# Altium schematic symbol library capacitors.SchLib: 12 symbols
Pins are listed as number, name and electrical type; pins without a type are passive.

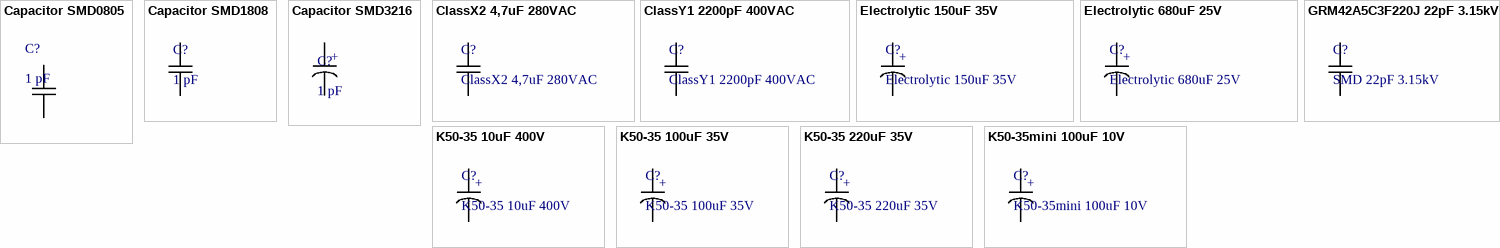
[diagram p0: symbols Capacitor SMD0805 to K50-35mini 100uF 10V]

## Capacitor SMD0805
designator C?, comment 1 pF
Ceramic
footprint SMD0805 (0.125W)
pins: 1, 2

## Capacitor SMD1808
designator C?, comment 1 pF
Ceramic
footprint SMD1808 (ceramic SMD capacitor)
pins: 1, 2

## Capacitor SMD3216
designator C?, comment 1 pF
Tantalum
footprint SMD3216 (Tantalum)
pins: 1, 2
text: +

## ClassX2 4,7uF 280VAC
designator C?
ClassX
footprint ClassX 18x11x5 (ClassX Capacitor)
pins: 1, 2

## ClassY1 2200pF 400VAC
designator C?
ClassY
footprint ClassY 9x5 (ClassY Capacitor)
pins: 1, 2

## Electrolytic 150uF 35V
designator C?
Electrolytic
footprint К50-35 8x12 (Vertical THT Electrolytic Capacitor)
footprint К50-35 8x12 hor (Horizontal THT Electrolytic Capacitor)
pins: 1, 2
text: +

## Electrolytic 680uF 25V
designator C?
Electrolytic
footprint K50-35 10x17 ver (Vertical Electrolytic Capacitor)
footprint K50-35 10x17 hor (Horizontal Electrolytic Capacitor)
pins: 1, 2
text: +

## GRM42A5C3F220J 22pF 3.15kV
designator C?, comment SMD 22pF 3.15kV
Ceramic
footprint SMD1808 (ceramic SMD capacitor)
pins: 1, 2

## K50-35 10uF 400V
designator C?
Electrolytic
footprint K50-35 13x20 ver (Vertical THT Electrolytic Capacitor)
footprint K50-35 13x20 hor (Horizontal THT Electrolytic Capacitor)
pins: 1, 2
text: +

## K50-35 100uF 35V
designator C?
Electrolytic
footprint К50-35 6.3x11 (Horizontal THT Electrolytic Capacitor)
footprint К50-35 6.3x11 hor (Horizontal THT Electrolytic Capacitor)
pins: 1, 2
text: +

## K50-35 220uF 35V
designator C?
Electrolytic
footprint К50-35 8x12 (Vertical THT Electrolytic Capacitor)
footprint К50-35 8x12 hor (Horizontal THT Electrolytic Capacitor)
pins: 1, 2
text: +

## K50-35mini 100uF 10V
designator C?
Electrolytic
footprint K50-35mini 5x7 (Horizontal THT Electrolytic Capacitor)
pins: 1, 2
text: +